# Altium schematic symbol library hdr1x2.Schlib: 1 symbol
Pins are listed as number, name and electrical type; pins without a type are passive.

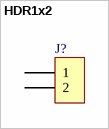
[diagram p0: symbol HDR1x2]

## HDR1x2
designator J?
2 PIN HEADER TIN
footprint th_cap (Connector; Header; 2 Position)
pins: 1, 2